# EAGLE library part TPS65987D (library texas-usbc)
TPS65987D USB Type-C and USB PD Controller with Integrated Power Switches
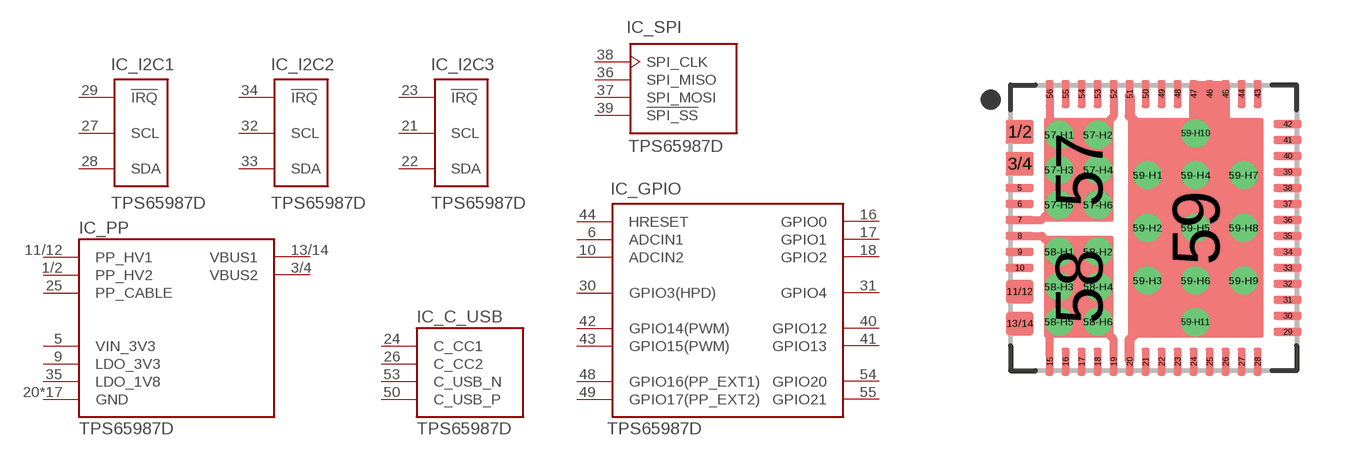
[diagram p4: symbol with the pads of TPS65987D; footprint TPS65987D]

Designator prefix IC; gates _C_USB=USB-PD _PP=TPS65987D-PP _I2C1=I2C3 _I2C2=I2C3 _I2C3=I2C3 _SPI=SPI _GPIO=TPS65987D-GPIO

## TPS65987D  [TPS65987D]
1/2  _PP:PP_HV2  pwr
3/4  _PP:VBUS2  pwr
5  _PP:VIN_3V3  pwr
6  _GPIO:ADCIN1
9  _PP:LDO_3V3  out
10  _GPIO:ADCIN2
11/12  _PP:PP_HV1  pwr
13/14  _PP:VBUS1  pwr
16  _GPIO:GPIO0
17  _GPIO:GPIO1
18  _GPIO:GPIO2
20  _PP:GND  sup
21  _I2C3:SCL
22  _I2C3:SDA
23  _I2C3:!IRQ
24  _C_USB:C_CC1
25  _PP:PP_CABLE  pwr
26  _C_USB:C_CC2
27  _I2C1:SCL
28  _I2C1:SDA
29  _I2C1:!IRQ
30  _GPIO:GPIO3(HPD)
31  _GPIO:GPIO4
32  _I2C2:SCL
33  _I2C2:SDA
34  _I2C2:!IRQ
35  _PP:LDO_1V8  out
36  _SPI:SPI_MISO
37  _SPI:SPI_MOSI
38  _SPI:SPI_CLK
39  _SPI:!SPI_SS
40  _GPIO:GPIO12
41  _GPIO:GPIO13
42  _GPIO:GPIO14(PWM)
43  _GPIO:GPIO15(PWM)
44  _GPIO:HRESET
45  _PP:GND  sup
46  _PP:GND  sup
47  _PP:GND  sup
48  _GPIO:GPIO16(PP_EXT1)
49  _GPIO:GPIO17(PP_EXT2)
50  _C_USB:C_USB_P
51  _PP:GND  sup
53  _C_USB:C_USB_N
54  _GPIO:GPIO20
55  _GPIO:GPIO21
59  _PP:GND  sup
59-H1  _PP:GND  sup
59-H2  _PP:GND  sup
59-H3  _PP:GND  sup
59-H4  _PP:GND  sup
59-H5  _PP:GND  sup
59-H6  _PP:GND  sup
59-H7  _PP:GND  sup
59-H8  _PP:GND  sup
59-H9  _PP:GND  sup
59-H10  _PP:GND  sup
59-H11  _PP:GND  sup

## Footprint TPS65987D (pad centres in mm)
56-QFN, 0.40 mm pitch, 7.00 X 7.00 X 1.00 mm body 56-pin QFN package with 0.40 mm pitch with body size 7.00 X 7.00 X 1.00 mm
smd 0.7 x 0.6: 1/2 -3.35,2.4; 3/4 -3.35,1.6; 11/12 -3.35,-1.6; 13/14 -3.35,-2.4
smd 0.7 x 0.2: 5 -3.35,1; 6 -3.35,0.6; 7 -3.35,0.2; 8 -3.35,-0.2; 9 -3.35,-0.6; 10 -3.35,-1; 29 3.35,-2.6; 30 3.35,-2.2; 31 3.35,-1.8; 32 3.35,-1.4; 33 3.35,-1; 34 3.35,-0.6; 35 3.35,-0.2; 36 3.35,0.2; 37 3.35,0.6; 38 3.35,1; 39 3.35,1.4; 40 3.35,1.8; 41 3.35,2.2; 42 3.35,2.6
smd 0.2 x 0.7: 15 -2.6,-3.35; 16 -2.2,-3.35; 17 -1.8,-3.35; 18 -1.4,-3.35; 19 -1,-3.35; 20 -0.6,-3.35; 21 -0.2,-3.35; 22 0.2,-3.35; 23 0.6,-3.35; 24 1,-3.35; 25 1.4,-3.35; 26 1.8,-3.35; 27 2.2,-3.35; 28 2.6,-3.35; 43 2.6,3.35; 44 2.2,3.35; 45 1.8,3.35; 46 1.4,3.35; 47 1,3.35; 48 0.6,3.35; 49 0.2,3.35; 50 -0.2,3.35; 51 -0.6,3.35; 52 -1,3.35; 53 -1.4,3.35; 54 -1.8,3.35; 55 -2.2,3.35; 56 -2.6,3.35
smd 1.75 x 2.6: 57 -1.875,1.45
drill 0.2: 57-H1 -2.362,2.325; 57-H2 -1.388,2.325; 57-H3 -2.362,1.45; 57-H4 -1.388,1.45; 57-H5 -2.362,0.575; 57-H6 -1.388,0.575; 58-H1 -2.362,-0.6; 58-H2 -1.388,-0.6; 58-H3 -2.362,-1.475; 58-H4 -1.388,-1.475; 58-H5 -2.362,-2.35; 58-H6 -1.388,-2.35; 59-H1 -0.15,1.32; 59-H2 -0.15,0; 59-H3 -0.15,-1.32; 59-H4 1.05,1.32; 59-H5 1.05,0; 59-H6 1.05,-1.32; 59-H7 2.25,1.32; 59-H8 2.25,0; 59-H9 2.25,-1.32; 59-H10 1.05,2.362; 59-H11 1.05,-2.362
smd 1.75 x 2.55: 58 -1.875,-1.475
smd 3.4 x 5.5: 59 1.05,0